# Altium footprint library IFX-PG-LLGA-5-2-V.PcbLib: 1 footprints
Each footprint in its own frame and in the unit in brackets; x right, y up, seen from the top. Pads: shape width x height; smd on the part's side, far side on the other; paste and mask are expansions set on the pad; w line width, h text height; cw(c..) or ccw(c..) is an arc to the next point about the centre after c.
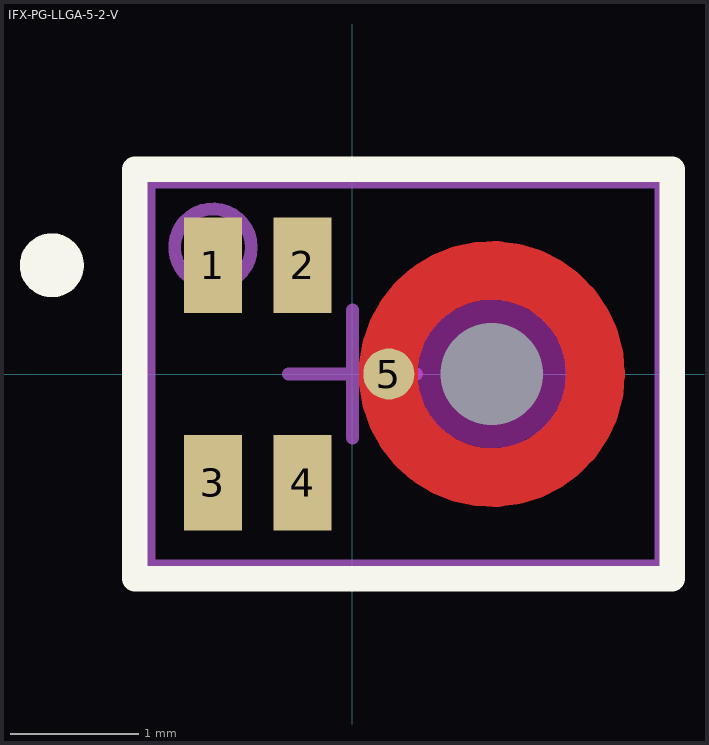
[diagram p0: the footprint, top view; thin cyan lines are the x and y axes]

## IFX-PG-LLGA-5-2-V [mm] "Microphone, SMD, 5 pin, 4.00 mm L X 3.00 mm W X 1.28 mm H body"
height 1.28
pads (6):
  rect 0.45x0.75 smd paste-0.375 mask+0: 1(-1.09,0.85) 2(-0.39,0.85) 3(-1.09,-0.85) 4(-0.39,-0.85)
  round 0.4 smd paste-0.2 mask-0.2: 5(0.285,0)
  round 0 hole 0.8 unplated paste+0 mask+0: ""(1.09,0)
Top Layer:
  circle w0.46: c1.09,0 r0.81
Top Overlay:
  circle w0.25: c-2.35,0.85 r0.125
  lines w0.2: -1.7,-1.6 -1.7,1.6 2.5,1.6 2.5,-1.6 -1.7,-1.6
Top Paste:
  lines w0.4: -1.09,-0.975 -1.09,-0.725 ; -1.09,0.725 -1.09,0.975 ; -0.39,-0.975 -0.39,-0.725 ; -0.39,0.725 -0.39,0.975 ; 0.307,-0.166 cw(c1.09,0) 0.307,0.166 ; 0.555,-0.595 ccw(c1.09,0) 0.843,-0.761 ; 0.555,0.595 cw(c1.09,0) 0.843,0.761 ; 1.337,-0.761 ccw(c1.09,0) 1.625,-0.595 ; 1.337,0.761 cw(c1.09,0) 1.625,0.595 ; 1.873,-0.166 ccw(c1.09,0) 1.873,0.166
Keep-Out Layer:
  circle w0.58: c1.09,0 r0.29
M13 (CMP_Body_OTL_Top):
  circle w0.1: c-1.09,0.991 r0.3
  lines w0.1: -1.59,-1.5 2.41,-1.5 2.41,1.5 -1.59,1.5 -1.59,-1.5
M15 (CMP_Courtyard_Top):
  lines w0.1: -0.5,0 0.5,0 ; 0,-0.5 0,0.5
3D body "PG-LLGA-5-2_Z8B00190520_V03_3D.stp": height 1.29, standoff 0, extent -1.59,-1.5 2.41,1.5